# Altium footprint library Mcu.PcbLib: 1 footprints
Each footprint in its own frame and in the unit in brackets; x right, y up, seen from the top. Pads: shape width x height; smd on the part's side, far side on the other; paste and mask are expansions set on the pad; w line width, h text height; cw(c..) or ccw(c..) is an arc to the next point about the centre after c.
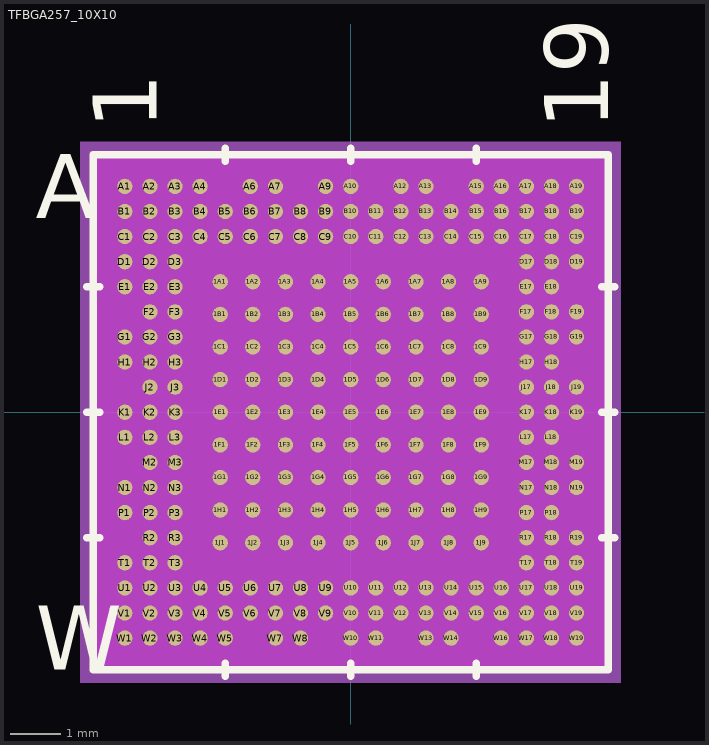
[diagram p0: the footprint, top view; thin cyan lines are the x and y axes]

## TFBGA257_10X10 [mil]
pads (257):
  round 12 smd paste+0 mask+0: 1A1(-102.36,102.36) 1A2(-76.77,102.36) 1A3(-51.18,102.36) 1A4(-25.59,102.36) 1A5(0,102.36) 1A6(25.59,102.36) 1A7(51.18,102.36) 1A8(76.77,102.36) 1A9(102.36,102.36) 1B1(-102.36,76.77) 1B2(-76.77,76.77) 1B3(-51.18,76.77) 1B4(-25.59,76.77) 1B5(0,76.77) 1B6(25.59,76.77) 1B7(51.18,76.77) 1B8(76.77,76.77) 1B9(102.36,76.77) 1C1(-102.36,51.18) 1C2(-76.77,51.18) 1C3(-51.18,51.18) 1C4(-25.59,51.18) 1C5(0,51.18) 1C6(25.59,51.18) 1C7(51.18,51.18) 1C8(76.77,51.18) 1C9(102.36,51.18) 1D1(-102.36,25.59) 1D2(-76.77,25.59) 1D3(-51.18,25.59) 1D4(-25.59,25.59) 1D5(0,25.59) 1D6(25.59,25.59) 1D7(51.18,25.59) 1D8(76.77,25.59) 1D9(102.36,25.59) 1E1(-102.36,0) 1E2(-76.77,0) 1E3(-51.18,0) 1E4(-25.59,0) 1E5(0,0) 1E6(25.59,0) 1E7(51.18,0) 1E8(76.77,0) 1E9(102.36,0) 1F1(-102.36,-25.59) 1F2(-76.77,-25.59) 1F3(-51.18,-25.59) 1F4(-25.59,-25.59) 1F5(0,-25.59) 1F6(25.59,-25.59) 1F7(51.18,-25.59) 1F8(76.77,-25.59) 1F9(102.36,-25.59) 1G1(-102.36,-51.18) 1G2(-76.77,-51.18) 1G3(-51.18,-51.18) 1G4(-25.59,-51.18) 1G5(0,-51.18) 1G6(25.59,-51.18) 1G7(51.18,-51.18) 1G8(76.77,-51.18) 1G9(102.36,-51.18) 1H1(-102.36,-76.77) 1H2(-76.77,-76.77) 1H3(-51.18,-76.77) 1H4(-25.59,-76.77) 1H5(0,-76.77) 1H6(25.59,-76.77) 1H7(51.18,-76.77) 1H8(76.77,-76.77) 1H9(102.36,-76.77) 1J1(-102.36,-102.36) 1J2(-76.77,-102.36) 1J3(-51.18,-102.36) 1J4(-25.59,-102.36) 1J5(0,-102.36) 1J6(25.59,-102.36) 1J7(51.18,-102.36) 1J8(76.77,-102.36) 1J9(102.36,-102.36) A1(-177.17,177.17) A2(-157.48,177.17) A3(-137.8,177.17) A4(-118.11,177.17) A6(-78.74,177.17) A7(-59.06,177.17) A9(-19.68,177.17) A10(0,177.17) A12(39.37,177.17) A13(59.06,177.17) A15(98.43,177.17) A16(118.11,177.17) A17(137.8,177.17) A18(157.48,177.17) A19(177.17,177.17) B1(-177.17,157.48) B2(-157.48,157.48) B3(-137.8,157.48) B4(-118.11,157.48) B5(-98.43,157.48) B6(-78.74,157.48) B7(-59.06,157.48) B8(-39.37,157.48) B9(-19.68,157.48) B10(0,157.48) B11(19.68,157.48) B12(39.37,157.48) B13(59.06,157.48) B14(78.74,157.48) B15(98.43,157.48) B16(118.11,157.48) B17(137.8,157.48) B18(157.48,157.48) B19(177.17,157.48) C1(-177.17,137.8) C2(-157.48,137.8) C3(-137.8,137.8) C4(-118.11,137.8) C5(-98.43,137.8) C6(-78.74,137.8) C7(-59.06,137.8) C8(-39.37,137.8) C9(-19.68,137.8) C10(0,137.8) C11(19.68,137.8) C12(39.37,137.8) C13(59.06,137.8) C14(78.74,137.8) C15(98.43,137.8) C16(118.11,137.8) C17(137.8,137.8) C18(157.48,137.8) C19(177.17,137.8) D1(-177.17,118.11) D2(-157.48,118.11) D3(-137.8,118.11) D17(137.8,118.11) D18(157.48,118.11) D19(177.17,118.11) E1(-177.17,98.43) E2(-157.48,98.43) E3(-137.8,98.43) E17(137.8,98.43) E18(157.48,98.43) F2(-157.48,78.74) F3(-137.8,78.74) F17(137.8,78.74) F18(157.48,78.74) F19(177.17,78.74) G1(-177.17,59.06) G2(-157.48,59.06) G3(-137.8,59.06) G17(137.8,59.06) G18(157.48,59.06) G19(177.17,59.06) H1(-177.17,39.37) H2(-157.48,39.37) H3(-137.8,39.37) H17(137.8,39.37) H18(157.48,39.37) J2(-157.48,19.68) J3(-137.8,19.68) J17(137.8,19.68) J18(157.48,19.68) J19(177.17,19.68) K1(-177.17,0) K2(-157.48,0) K3(-137.8,0) K17(137.8,0) K18(157.48,0) K19(177.17,0) L1(-177.17,-19.68) L2(-157.48,-19.68) L3(-137.8,-19.68) L17(137.8,-19.68) L18(157.48,-19.68) M2(-157.48,-39.37) M3(-137.8,-39.37) M17(137.8,-39.37) M18(157.48,-39.37) M19(177.17,-39.37) N1(-177.17,-59.06) N2(-157.48,-59.06) N3(-137.8,-59.06) N17(137.8,-59.06) N18(157.48,-59.06) N19(177.17,-59.06) P1(-177.17,-78.74) P2(-157.48,-78.74) P3(-137.8,-78.74) P17(137.8,-78.74) P18(157.48,-78.74) R2(-157.48,-98.43) R3(-137.8,-98.43) R17(137.8,-98.43) R18(157.48,-98.43) R19(177.17,-98.43) T1(-177.17,-118.11) T2(-157.48,-118.11) T3(-137.8,-118.11) T17(137.8,-118.11) T18(157.48,-118.11) T19(177.17,-118.11) U1(-177.17,-137.8) U2(-157.48,-137.8) U3(-137.8,-137.8) U4(-118.11,-137.8) U5(-98.43,-137.8) U6(-78.74,-137.8) U7(-59.06,-137.8) U8(-39.37,-137.8) U9(-19.68,-137.8) U10(0,-137.8) U11(19.68,-137.8) U12(39.37,-137.8) U13(59.06,-137.8) U14(78.74,-137.8) U15(98.43,-137.8) U16(118.11,-137.8) U17(137.8,-137.8) U18(157.48,-137.8) U19(177.17,-137.8) V1(-177.17,-157.48) V2(-157.48,-157.48) V3(-137.8,-157.48) V4(-118.11,-157.48) V5(-98.43,-157.48) V6(-78.74,-157.48) V7(-59.06,-157.48) V8(-39.37,-157.48) V9(-19.68,-157.48) V10(0,-157.48) V11(19.68,-157.48) V12(39.37,-157.48) V13(59.06,-157.48) V14(78.74,-157.48) V15(98.43,-157.48) V16(118.11,-157.48) V17(137.8,-157.48) V18(157.48,-157.48) V19(177.17,-157.48) W1(-177.17,-177.17) W2(-157.48,-177.17) W3(-137.8,-177.17) W4(-118.11,-177.17) W5(-98.43,-177.17) W7(-59.06,-177.17) W8(-39.37,-177.17) W10(0,-177.17) W11(19.68,-177.17) W13(59.06,-177.17) W14(78.74,-177.17) W16(118.11,-177.17) W17(137.8,-177.17) W18(157.48,-177.17) W19(177.17,-177.17)
Top Overlay:
  lines w6: -207,-98.43 -197,-98.43 ; -207,0 -197,0 ; -207,98.43 -197,98.43 ; -98.43,-207 -98.43,-197 ; -98.43,197 -98.43,207 ; 0,-207 0,-197 ; 0,197 0,207 ; 98.43,-207 98.43,-197 ; 98.43,197 98.43,207 ; 197,-98.43 207,-98.43 ; 197,0 207,0 ; 197,98.43 207,98.43 ; -202,-202 -202,202 202,202 202,-202 -202,-202
  text "19" at 202.17,222 h50
  text "1" at -152.17,222 h50
  text "W" at -247,-202.17 h50
  text "A" at -247,152.17 h50
Bottom Overlay:
  text "19" at 152.17,222 h50
  text "1" at -202.17,222 h50
  text "W" at -222,-202.17 h50
  text "A" at -222,152.17 h50
Keep-Out Layer:
  region: -204.51,-204.51 -204.51,204.51 204.51,204.51 204.51,-204.51
Mechanical 5:
  region: 212,-212 -212,-212 -212,212 212,212
Mechanical 13:
  lines w1: -197,187.16 -187.16,197 ; -197,-197 -197,197 197,197 197,-197 -197,-197
  text "19" at 202.17,222 h50
  text "1" at -152.17,222 h50
  text "W" at -247,-202.17 h50
  text "A" at -247,152.17 h50
Mechanical 15:
  region: 207,-207 -207,-207 -207,207 207,207
  lines w6: -207,-207 207,-207 207,207 -207,207 -207,-207
3D body "User Library-BGA-121_10x10.STEP": height 43.7, standoff 0, extent -196.85,-196.85 196.85,196.85
3D body: height 10, standoff 0, extent 0,0 10,10